# EAGLE library part T821_10 (library controller)
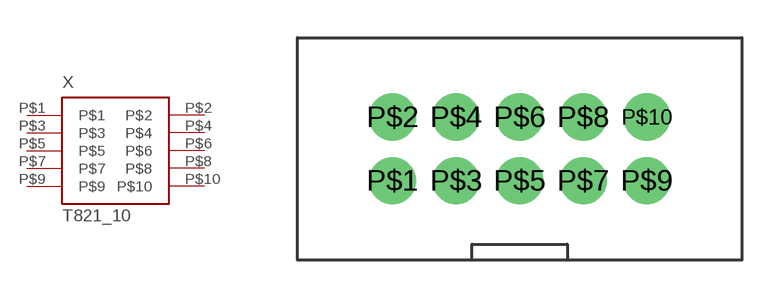
[diagram p1: symbol with the pads of T821_10; footprint T821_10]

Designator prefix X

## T821_10  [T821_10]
P$1  P$1
P$2  P$2
P$3  P$3
P$4  P$4
P$5  P$5
P$6  P$6
P$7  P$7
P$8  P$8
P$9  P$9
P$10  P$10

## Footprint T821_10 (pad centres in mm)
drill 1.016 pad 1.88: P$1 -5.08,-1.27; P$2 -5.08,1.27; P$3 -2.54,-1.27; P$4 -2.54,1.27; P$5 0,-1.27; P$6 0,1.27; P$7 2.54,-1.27; P$8 2.54,1.27; P$9 5.08,-1.27; P$10 5.08,1.27